# Altium footprint library AON6278.PcbLib: 1 footprints
Each footprint in its own frame and in the unit in brackets; x right, y up, seen from the top. Pads: shape width x height; smd on the part's side, far side on the other; paste and mask are expansions set on the pad; w line width, h text height; cw(c..) or ccw(c..) is an arc to the next point about the centre after c.
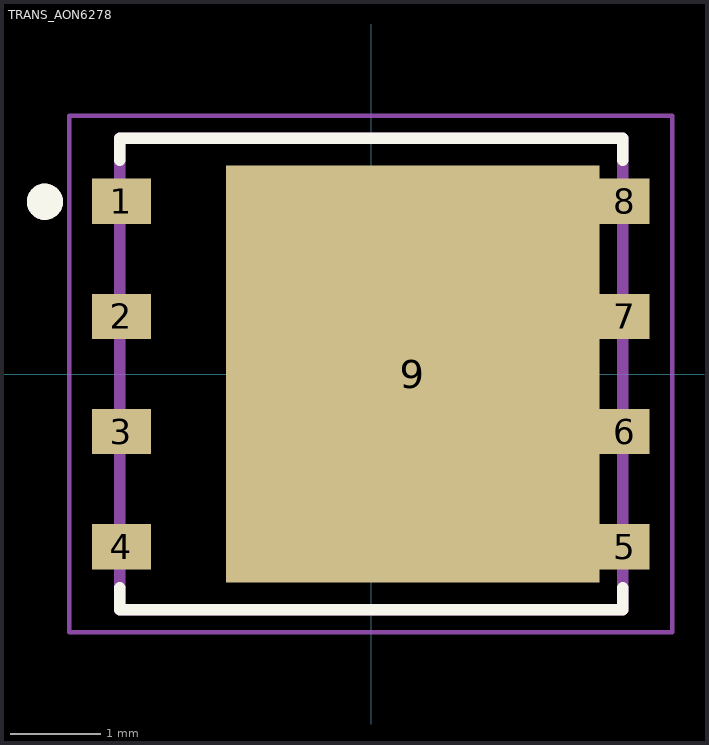
[diagram p0: the footprint, top view; thin cyan lines are the x and y axes]

## TRANS_AON6278 [mm]
pads (9):
  rect 0.65x0.5 smd: 1(-2.755,1.905) 2(-2.755,0.635) 3(-2.755,-0.635) 4(-2.755,-1.905)
  rect 0.55x0.5 smd: 5(2.795,-1.905) 6(2.795,-0.635) 7(2.795,0.635) 8(2.795,1.905)
  rect 4.12x4.6 smd paste-3: 9(0.46,0)
Top Overlay:
  circle w0.2: c-3.6,1.9 r0.1
  lines w0.127: -2.775,-2.36 -2.775,-2.6 2.775,-2.6 2.775,-2.36 ; -2.775,2.36 -2.775,2.6 2.775,2.6 2.775,2.36
Mechanical 13:
  circle w0.2: c-3.6,1.9 r0.1
  lines w0.127: -2.775,-2.6 -2.775,2.6 2.775,2.6 2.775,-2.6 -2.775,-2.6
Mechanical 15:
  lines w0.05: -3.33,-2.85 -3.33,2.85 3.32,2.85 3.32,-2.85 -3.33,-2.85
3D body "step_temp.STEP": height 0.95, standoff -0.05, extent -2.75,-3.025 2.75,3.025